# Altium footprint library SCO.PcbLib: 1 footprints
Each footprint in its own frame and in the unit in brackets; x right, y up, seen from the top. Pads: shape width x height; smd on the part's side, far side on the other; paste and mask are expansions set on the pad; w line width, h text height; cw(c..) or ccw(c..) is an arc to the next point about the centre after c.
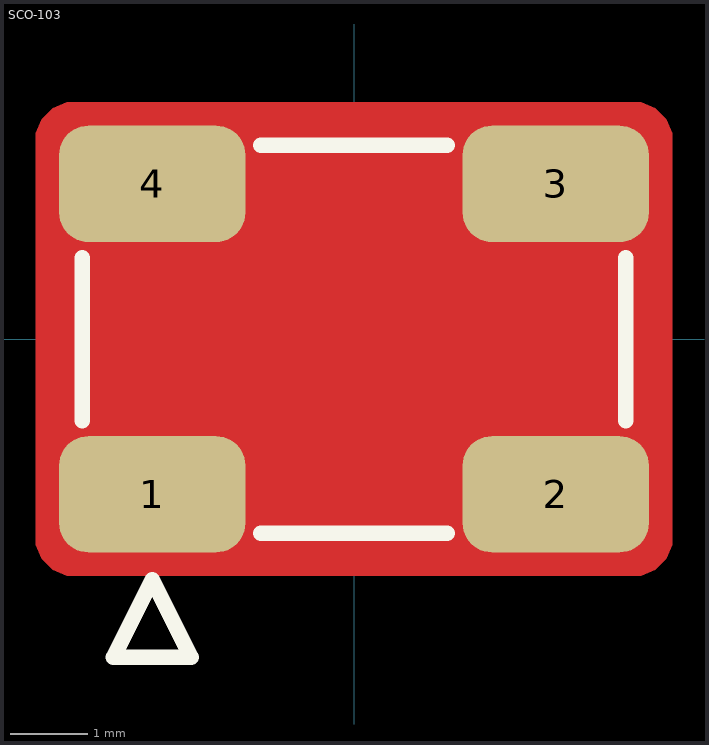
[diagram p0: the footprint, top view; thin cyan lines are the x and y axes]

## SCO-103 [mm]
height 5.96
pads (4):
  rrect50% 2.4x1.5 smd: 1(-2.6,-2) 2(2.6,-2) 3(2.6,2) 4(-2.6,2)
Top Layer:
  pour cut-out: -4.1,-2.55 -4.1,-2.649 -4.024,-2.833 -3.883,-2.974 -3.699,-3.05 -3.6,-3.05 3.6,-3.05 3.699,-3.05 3.883,-2.974 4.024,-2.833 4.1,-2.649 4.1,-2.55 4.1,2.55 4.1,2.649 4.024,2.833 3.883,2.974 3.699,3.05 3.6,3.05 -3.6,3.05 -3.699,3.05 -3.883,2.974 -4.024,2.833 -4.1,2.649 -4.1,2.55
Top Overlay:
  lines w0.2: -3.5,-1.05 -3.5,1.05 ; -1.2,-2.5 1.2,-2.5 ; -1.2,2.5 1.2,2.5 ; 3.5,-1.05 3.5,1.05 ; -3.1,-4.1 -2.6,-3.1 -2.1,-4.1 -3.1,-4.1
3D body "SCO-103-Yale.STEP": height 1.71, standoff 0.01, extent -3.5,-2.5 3.5,2.5